# EAGLE library part DRV8814 (library Eagle CMR)
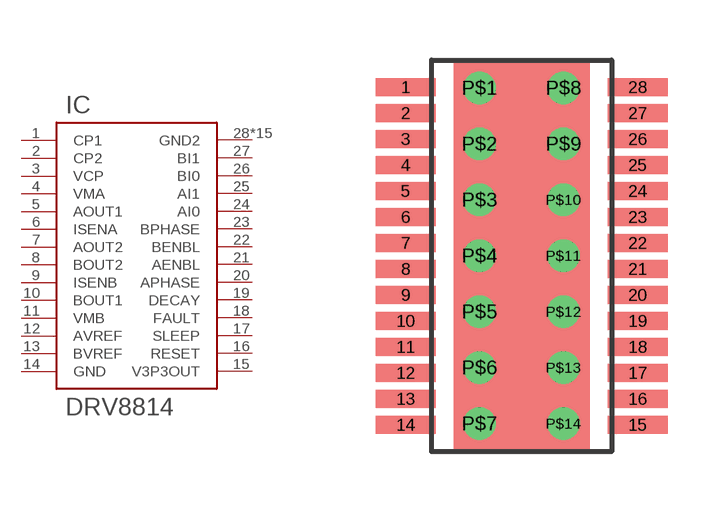
[diagram p2: symbol with the pads of TSSOP; footprint TSSOP]

Designator prefix IC

## DRV8814  [TSSOP]
1  CP1
2  CP2
3  VCP
4  VMA
5  AOUT1
6  ISENA
7  AOUT2
8  BOUT2
9  ISENB
10  BOUT1
11  VMB
12  AVREF
13  BVREF
14  GND
15  V3P3OUT
16  RESET
17  SLEEP
18  FAULT
19  DECAY
20  APHASE
21  AENBL
22  BENBL
23  BPHASE
24  AI0
25  AI1
26  BI0
27  BI1
28  GND2
P$1  GND2
P$2  GND2
P$3  GND2
P$4  GND2
P$5  GND2
P$6  GND2
P$7  GND2
P$8  GND2
P$9  GND2
P$10  GND2
P$11  GND2
P$12  GND2
P$13  GND2
P$14  GND2

## Footprint TSSOP (pad centres in mm)
smd 1.5 x 0.45: 1 -2.9,4.225; 2 -2.9,3.575; 3 -2.9,2.925; 4 -2.9,2.275; 5 -2.9,1.625; 6 -2.9,0.975; 7 -2.9,0.325; 8 -2.9,-0.325; 9 -2.9,-0.975; 10 -2.9,-1.625; 11 -2.9,-2.275; 12 -2.9,-2.925; 13 -2.9,-3.575; 14 -2.9,-4.225; 15 2.9,-4.225; 16 2.9,-3.575; 17 2.9,-2.925; 18 2.9,-2.275; 19 2.9,-1.625; 20 2.9,-0.975; 21 2.9,-0.325; 22 2.9,0.325; 23 2.9,0.975; 24 2.9,1.625; 25 2.9,2.275; 26 2.9,2.925; 27 2.9,3.575; 28 2.9,4.225
drill 0.3 pad 0.4: P$1 -1.05,4.2; P$2 -1.05,2.8; P$3 -1.05,1.4; P$4 -1.05,0; P$5 -1.05,-1.4; P$6 -1.05,-2.8; P$7 -1.05,-4.2; P$8 1.05,4.2; P$9 1.05,2.8; P$10 1.05,1.4; P$11 1.05,0; P$12 1.05,-1.4; P$13 1.05,-2.8; P$14 1.05,-4.2